# Altium footprint library HDR1X6_RA.PcbLib: 1 footprints
Each footprint in its own frame and in the unit in brackets; x right, y up, seen from the top. Pads: shape width x height; smd on the part's side, far side on the other; paste and mask are expansions set on the pad; w line width, h text height; cw(c..) or ccw(c..) is an arc to the next point about the centre after c.
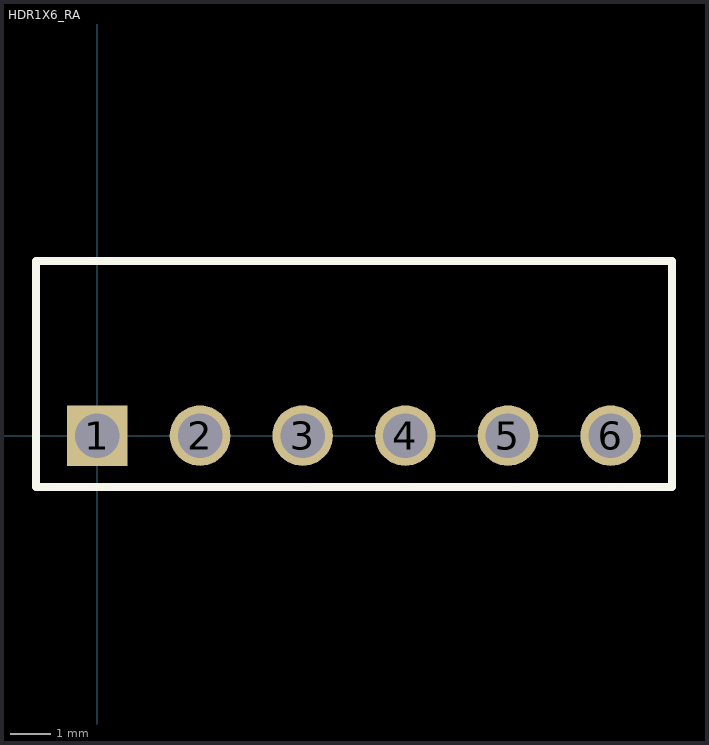
[diagram p0: the footprint, top view; thin cyan lines are the x and y axes]

## HDR1X6_RA [mm] "Connector; Header; 6 Position, 2.54m pitch"
pads (6):
  rect 1.5x1.5 hole 1.1: 1(0,0)
  round 1.5 hole 1.1: 2(2.54,0) 3(5.08,0) 4(7.62,0) 5(10.16,0) 6(12.7,0)
Top Overlay:
  lines w0.2: -1.524,-1.27 14.224,-1.27 14.224,4.318 -1.524,4.318 -1.524,-1.27
3D body: height 2.55, standoff -2.99, extent 6.35,-0.296 13.97,10.064
3D body: height 2.55, standoff -2.99, extent -1.27,-0.296 6.35,10.064